# Altium footprint library QFN32.PcbLib: 1 footprints
Each footprint in its own frame and in the unit in brackets; x right, y up, seen from the top. Pads: shape width x height; smd on the part's side, far side on the other; paste and mask are expansions set on the pad; w line width, h text height; cw(c..) or ccw(c..) is an arc to the next point about the centre after c.
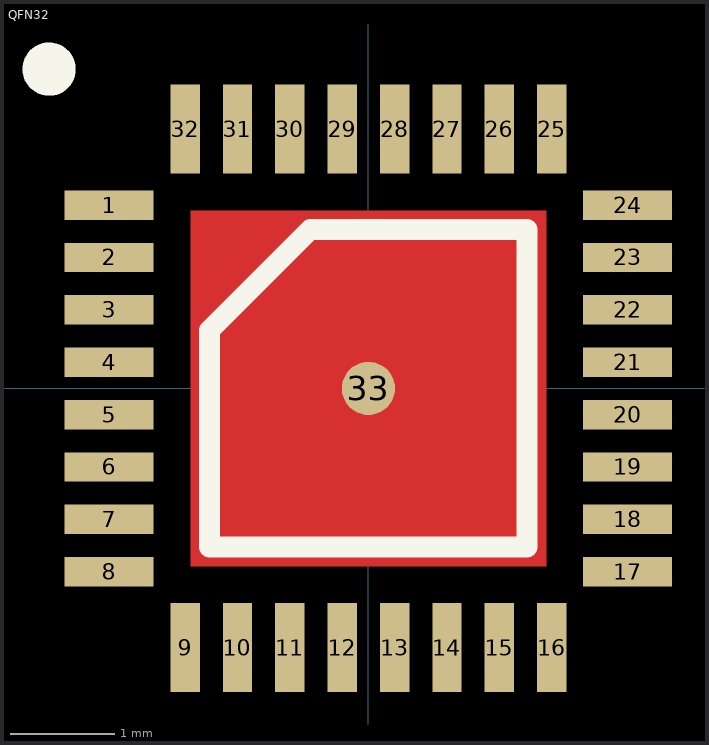
[diagram p0: the footprint, top view; thin cyan lines are the x and y axes]

## QFN32 [mm]
pads (33):
  rect 0.85x0.28 smd mask+0.051: 1(-2.475,1.75) 2(-2.475,1.25) 3(-2.475,0.75) 4(-2.475,0.25) 5(-2.475,-0.25) 6(-2.475,-0.75) 7(-2.475,-1.25) 8(-2.475,-1.75) 17(2.475,-1.75) 18(2.475,-1.25) 19(2.475,-0.75) 20(2.475,-0.25) 21(2.475,0.25) 22(2.475,0.75) 23(2.475,1.25) 24(2.475,1.75)
  rect 0.28x0.85 smd mask+0.051: 9(-1.75,-2.475) 10(-1.25,-2.475) 11(-0.75,-2.475) 12(-0.25,-2.475) 13(0.25,-2.475) 14(0.75,-2.475) 15(1.25,-2.475) 16(1.75,-2.475) 25(1.75,2.475) 26(1.25,2.475) 27(0.75,2.475) 28(0.25,2.475) 29(-0.25,2.475) 30(-0.75,2.475) 31(-1.25,2.475) 32(-1.75,2.475)
  round 0.508 smd mask+0.051: 33(0,0)
Top Layer:
  rectangle: -1.7,-1.7 1.7,1.7
Top Overlay:
  circle w0.254: c-3.048,3.048 r0.127
  lines w0.2: -1.515,-1.515 1.515,-1.515 1.515,1.515 -0.555,1.515 -1.515,0.555 -1.515,-1.515
Top Paste:
  rectangle: -1.5,0.1 -0.1,1.5
  rectangle: -1.5,-1.5 -0.1,-0.1
  rectangle: 0.1,-1.5 1.5,-0.1
  rectangle: 0.1,0.1 1.5,1.5
3D body: height 1.22, standoff 0.81, extent -1.703,1.297 -1.297,1.703
3D body: height 1.02, standoff 0, extent -2.5,-2.5 2.5,2.5